# Altium schematic symbol library techdev.SchLib: 24 symbols
Pins are listed as number, name and electrical type; pins without a type are passive.

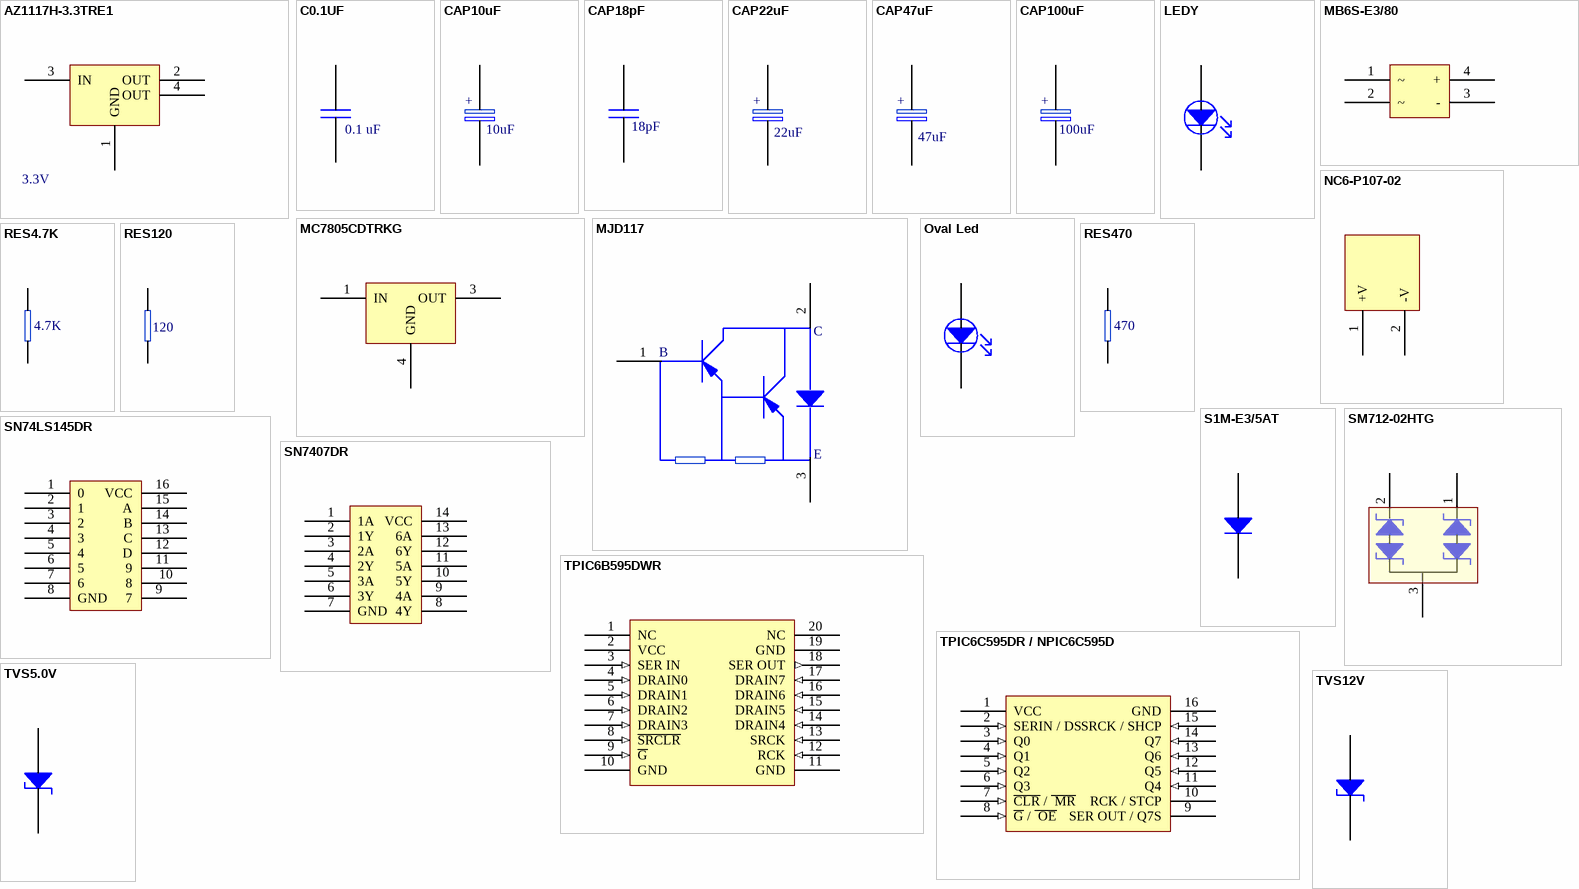
[diagram p0: symbols AZ1117H-3.3TRE1 to TVS12V]

## AZ1117H-3.3TRE1
designator U?  value 3.3V  (hidden comment: AZ1117H-3.3TRE1)
Reguladores de tensión lineal LDO BJT HiCurr 1.15V at 1A; Supplier: Mouser; Supplier PN: 621-AZ1117H-3.3TRE1; MPN: AZ1117H-3.3TRE1
footprint AZ1117H-3.3TRE1 (Reguladores de tensión lineal LDO BJT HiCurr 3.3V at 1A)
pins: 1 GND, 2 OUT, 3 IN, 4 OUT

## C0.1UF
designator C?, comment value 0.1 uF  (hidden comment: CAP0.1uF)
Capacitores cerámicos de capas múltiples (MLCC) - SMD/SMT 0603 0.1uF 16volts X7R 5%; MPN: VJ0603Y104JXJPW1BC; Supplier PN: 77-VJ0603Y104JXJPBC; Supplier: Mouser
footprint CAP0603 (Capacitores cerámicos de capas múltiples (MLCC) - SMD/SMT 0603 0.1uF 16volts X7R 5%)
pins: 1, 2

## CAP10uF
designator C?  value 10uF  (hidden comment: CAP10uF)
Capacitores cerámicos de capas múltiples (MLCC) - SMD/SMT 0805 10uF 16volts X5R 10%; MPN: GRM21BR61C106KE15L; Supplier: Mouser; Supplier PN: 81-GRM21BR61C106KE15
footprint CAP0805
pins: 1 pos, 2 neg
text: +

## CAP18pF
designator C?  value 18pF  (hidden comment: CAP18pF)
Capacitores cerámicos de capas múltiples (MLCC) - SMD/SMT 0603 18pF 50volts C0G 5%; MPN: GRM1885C1H180JA01D; Supplier: Mouser; Supplier PN: 81-GRM39C180J50
footprint CAP0603 (Capacitores cerámicos de capas múltiples (MLCC) - SMD/SMT 0603 0.1uF 16volts X7R 5%)
pins: 1, 2

## CAP22uF
designator C?  value 22uF  (hidden comment: CAP22uF)
Capacitores cerámicos de capas múltiples (MLCC) - SMD/SMT 0805 22uF 16volts X5R 20%; MPN: GRM21BR61C226ME44L; Supplier: Mouser; Supplier PN: 81-GRM21BR61C226ME4L
footprint CAP0805
pins: 1 pos, 2 neg
text: +

## CAP47uF
designator C?  value 47uF
Capacitores de polímero orgánico de aluminio 25volts 47uF ESR 30mohm; MPN: 25SVPF47M; Supplier: Mouser; Supplier PN: 667-25SVPF47M
footprint EEH-ZA1E101XP
pins: 1 pos, 2 neg
text: +

## CAP100uF
designator C?  value 100uF  (hidden comment: CAP100uF)
Capacitores de polímero orgánico de aluminio 100uF 25volts 6.3x7.7mm; MPN: EEH-ZA1E101XP; Supplier: Mouser; Supplier PN: 667-EEH-ZA1E101XP
footprint EEH-ZA1E101XP
pins: 1 pos, 2 neg
text: +

## LEDY
designator D?
LED estándar - SMD (montaje superficial) WL-SMCW SMDMono TpVw Waterclr 0603 Yellow; MPN: 150060YS75000; Supplier: Mouser; Supplier PN: 710-150060YS75000; Value: Yellow
footprint 150060YS75000
pins: 1 Cathode, 2 Anode

## MB6S-E3/80
designator D?
Rectificadores en puente 600 Volt 0.5 Amp 35 Amp IFSM; Value: 35V / 1A; MPN: MB6S-E3/80; Supplier: Mouser; Supplier PN: 625-MB6S-E3/80
footprint MB6S-E3/80
pins: 1 ~, 2 ~, 3 -, 4 +

## MC7805CDTRKG
designator U?
Reguladores de tensión lineal 5V 1A Postive; Value: 5.0 V / 1.0 A; Supplier: Mouser; Supplier PN: 863-MC7805CDTRKG; MPN: MC7805CDTRKG
footprint MC7805CDTRKG
pins: 1 IN, 3 OUT, 4 GND

## MJD117
designator Q?
Transistores Darlington PNP Silicon Darl; MPN: MJD117TF; Value: PNP; Supplier: Mouser; Supplier PN: 512-MJD117TF
footprint MJD117
pins: 1 B, 2 C, 3 E

## NC6-P107-02
designator J?
Bloques de terminal de barrera DUAL .375" 2P 12-22; Value: 2 POS; Supplier: Mouser; Supplier PN: 571-14376644; MPN: NC6-P107-02
footprint Barrier2POS
pins: 1 +V, 2 -V

## Oval Led
designator D?
LED estándar - Montaje interfacial Red Oval LED; MPN: C566C-RFN-CV0W0BB2; Value: 2200 mcd 70x35 deg; Supplier: Mouser; Supplier PN: 941-C566CRFNCV0W0BB2
footprint LED
pins: A Anode, K Cathode

## RES4.7K
designator R?  value 4.7K
Resistores de película gruesa - SMD 1/10watt 4.7Kohms 1%; MPN: CRCW06034K70FKEA; Supplier PN: 71-CRCW0603-4.7K-E3; Supplier: Mouser
footprint RES0603
pins: 1 pos, 2 neg

## RES120
designator R?  value 120  (hidden comment: RES120)
Resistores de película gruesa - SMD 1watt 120ohms 5%; MPN: CRCW2512120RJNEG; Supplier: Mouser; Supplier PN: 71-CRCW2512J-120-E3
footprint RES2512
pins: 1 pos, 2 neg

## RES470
designator R?  value 470  (hidden comment: RES470)
Resistores de película gruesa - SMD 1watt 470ohms 5%; MPN: CRCW2512470RJNEG; Supplier: Mouser; Supplier PN: 71-CRCW2512J-470-E3
footprint RES2512
pins: 1 pos, 2 neg

## S1M-E3/5AT
designator D?
Rectificadores 1.0 Amp 1000 Volt 30A IFSM @ 8.3ms; Value: 1A; Supplier: Mouser; Supplier PN: 625-S1M-E3/5AT; MPN: S1M-E3/5AT
footprint S1M-E3/5AT
pins: 1 Cathode, 2 Anode

## SM712-02HTG
designator D?
Secuencias de diodos de TVS 600W 2 Channel Green Asymmetrical SOT23-3 (- 7 V to + 12 V); Supplier: Mouser; Supplier PN: 576-SM712-02HTG; MPN: SM712-02HTG; Value: TVS 600W
footprint SW712 (SM712 Series 600W Asymmetrical TVS Diode Array)
pins: 1, 2, 3

## SN74LS145DR
designator U?
Codificadores, decodificadores, multiplexores y demultiplexores BCD-To-Decimal Decoders/Drivers; Value: BCD; Supplier: Mouser; Supplier PN: 595-SN74LS145DR; MPN: SN74LS145DR
footprint SOIC16 (SOIC, 16-Leads, Body 10.0x4.0mm (max), Pitch 1.27mm, IPC Medium Density)
pins: 1 0, 2 1, 3 2, 4 3, 5 4, 6 5, 7 6, 8 GND, 9 7, 11 9, 12 D, 13 C, 14 B, 15 A, 16 VCC,  10 8

## SN7407DR
designator U?
Búfers y controladores de línea Hex Buffer/Driver; Value: Hex Budder/Driver; Supplier: Mouser; Supplier PN: 595-SN7407DR; MPN: SN7407DR
footprint SOIC14
pins: 1 1A, 2 1Y, 3 2A, 4 2Y, 5 3A, 6 3Y, 7 GND, 8 4Y, 9 4A, 10 5Y, 11 5A, 12 6Y, 13 6A, 14 VCC

## TPIC6B595DWR
designator U?, comment TPIC6B595
HIGH POWER SHIFT REGISTER
footprint TPIC6B595DWR (SOIC, 20-Leads, Body 13.0x7.6mm (max), Pitch 1.27mm, IPC Medium Density)
pins: 1 NC, 2 VCC, 3 SER IN (in), 4 DRAIN0 (in), 5 DRAIN1 (in), 6 DRAIN2 (in), 7 DRAIN3 (in), 8 ~{SRCLR} (in), 9 ~{G} (in), 10 GND, 11 GND, 12 RCK (in), 13 SRCK (in), 14 DRAIN4 (in), 15 DRAIN5 (in), 16 DRAIN6 (in), 17 DRAIN7 (in), 18 SER OUT (out), 19 GND, 20 NC

## TPIC6C595DR / NPIC6C595D
designator U?, comment POWER SHIFT REG  (value not drawn)
Registros de cambio de contadores 8bit Shift; MPN: NPIC6C595D-Q100; MPN1: TPIC6C595DR; Value: 8 bits shift register; Supplier: Mouser; Supplier PN: 771-NPIC6C595D-Q100; Supplier PN1: 595-TPIC6C595DR
footprint NPIC6C595_Q100_SOIC16
pins: 1 VCC, 2 SERIN / DS (in), 3 Q0 (in), 4 Q1 (in), 5 Q2 (in), 6 Q3 (in), 7 ~{CLR} / ~{ MR} (in), 8 ~{G} / ~{ OE} (in), 9 SER OUT / Q7S, 10 RCK / STCP, 11 Q4 (in), 12 Q5 (in), 13 Q6 (in), 14 Q7 (in), 15 SRCK / SHCP (in), 16 GND

## TVS5.0V
designator D?
Diodos TVS - Supresores de tensión transitoria 5Vr 600W 65.3A 5% UniDirectional; MPN: SMBJ5.0A; Value: 5.0 V; Supplier: Mouser; Supplier PN: 576-SMBJ5.0A
footprint SMBJ5.0A
pins: 1 Cathode, 2 Anode

## TVS12V
designator D?
Diodos TVS - Supresores de tensión transitoria 600W 12V 5% Uni; MPN: SMBJ12A-E3/52; Supplier: Mouser; Supplier PN: 625-SMBJ12A-E3; Value: 12 V
footprint SMBJ5.0A
pins: 1 Cathode, 2 Anode